# EAGLE library part MAX7313 (library maxim)
16-Port I/O Expander with LED Intensity Control, Interrupt, and Hot-Insertion Protection
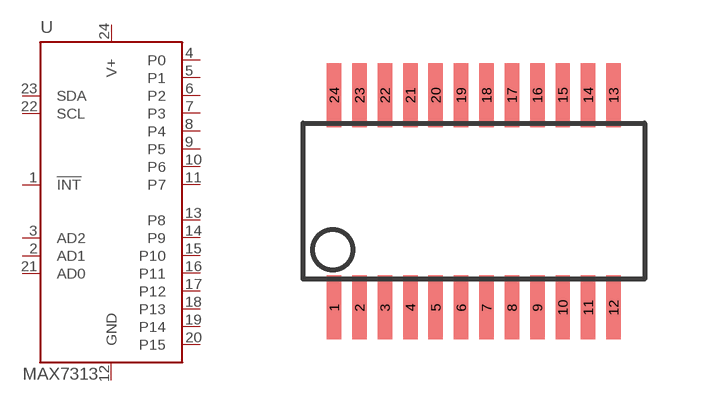
[diagram p2: symbol with the pads of QSOP-24; footprint QSOP-24]

Designator prefix U

## MAX7313AEG+  [QSOP-24]
1  !INT
2  AD1
3  AD2
4  P0  pas
5  P1  pas
6  P2  pas
7  P3  pas
8  P4  pas
9  P5  pas
10  P6  pas
11  P7  pas
12  GND  pwr
13  P8  pas
14  P9  pas
15  P10  pas
16  P11  pas
17  P12  pas
18  P13  pas
19  P14  pas
20  P15  pas
21  AD0
22  SCL
23  SDA
24  V+  pwr

## Footprint QSOP-24 (pad centres in mm)
smd 0.36 x 1.6: 1 -3.493,-2.655; 2 -2.857,-2.655; 3 -2.223,-2.655; 4 -1.587,-2.655; 5 -0.953,-2.655; 6 -0.318,-2.655; 7 0.318,-2.655; 8 0.953,-2.655; 9 1.587,-2.655; 10 2.223,-2.655; 11 2.857,-2.655; 12 3.493,-2.655; 13 3.493,2.655; 14 2.857,2.655; 15 2.223,2.655; 16 1.587,2.655; 17 0.953,2.655; 18 0.318,2.655; 19 -0.318,2.655; 20 -0.953,2.655; 21 -1.587,2.655; 22 -2.223,2.655; 23 -2.857,2.655; 24 -3.493,2.655